# Altium footprint library Capacitors - Ceramic - 01005.PcbLib: 2 footprints
Each footprint in its own frame and in the unit in brackets; x right, y up, seen from the top. Pads: shape width x height; smd on the part's side, far side on the other; paste and mask are expansions set on the pad; w line width, h text height; cw(c..) or ccw(c..) is an arc to the next point about the centre after c.
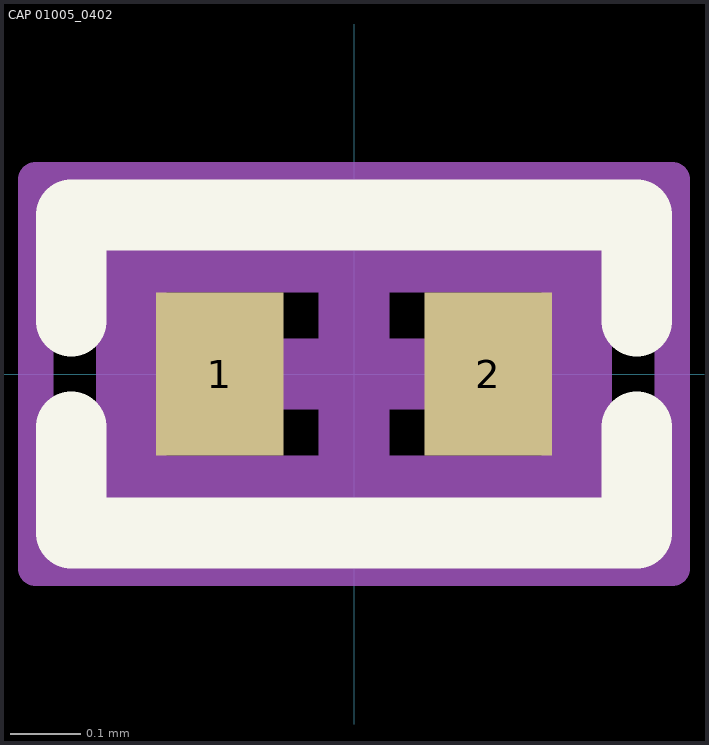
[diagram p0: the footprints below, top view; thin cyan lines are the x and y axes]

## CAP 01005_0402 [mm] "Chip Capacitor, 2-Leads, Body 0.30x0.15mm, IPC Medium Density"
height 0.25
pads (2):
  rect 0.18x0.23 smd: 1(-0.19,0) 2(0.19,0)
Top Overlay:
  lines w0.1: -0.4,-0.075 -0.4,-0.225 0.4,-0.225 0.4,-0.075 ; -0.4,0.075 -0.4,0.225 0.4,0.225 0.4,0.075
Mechanical 13:
  lines w0.1: -0.315,-0.165 0.315,-0.165 0.315,0.165 -0.315,0.165 -0.315,-0.165
Mechanical 15:
  lines w0.05: -0.45,-0.275 -0.45,0.275 0.45,0.275 0.45,-0.275 -0.45,-0.275
  lines w0.1: -0.165,0 0.165,0 ; 0,-0.165 0,0.165
3D body "CAP 01005.step": height 0.19, standoff -0.01, extent -0.2,-0.1 0.2,0.102

## PCBComponent_1 [mm]